# Altium integrated library Jumper.IntLib: 15 symbols
Pins are listed as number, name and electrical type; pins without a type are passive.

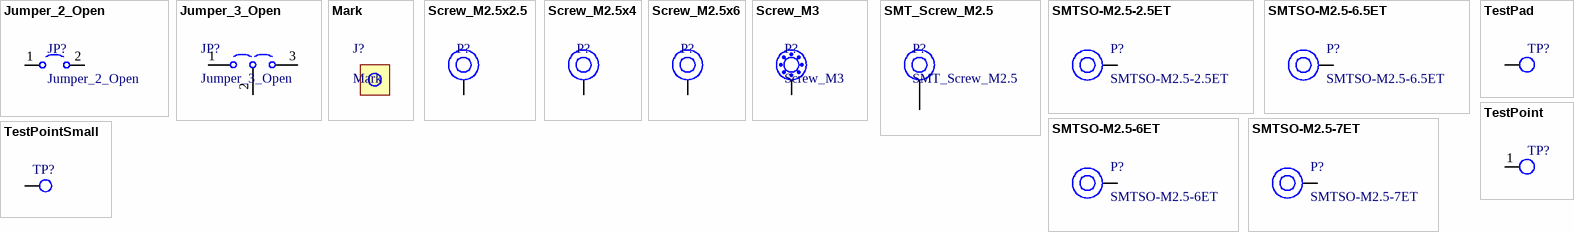
[diagram p0: symbols Jumper_2_Open to TestPointSmall]

## Jumper_2_Open
designator JP?
Jumper, 2-pole, open
footprint SolderJumper-2_P1.3mm_Open_RoundedPad1.0x1.5mm
pins: 1, 2

## Jumper_3_Open
designator JP?
Jumper, 3-pole, open
footprint SolderJumper-3_P1.3mm_Open_RoundedPad1.0x1.5mm
footprint Jumper-3_0402
pins: 1, 2, 3

## Mark
designator J?
footprint MARK_1mm

## Screw_M2.5x2.5
designator P?  (value not drawn)
footprint M2.5-2.5mm (SMT Steel Spacer, M2.5 Thread Internal, 6mm)
pins: 1

## Screw_M2.5x4
designator P?  (value not drawn)
footprint M2.5-4mm (SMT Steel Spacer, M2.5 Thread Internal, 4mm)
pins: 1

## Screw_M2.5x6
designator P?  (value not drawn)
footprint M2.5-6mm (SMT Steel Spacer, M2.5 Thread Internal, 6mm)
pins: 1

## Screw_M3
designator P?
footprint SCREW_M3
pins: 1

## SMT_Screw_M2.5
designator P?
footprint SMT_Screw_M2.5
pins: 1

## SMTSO-M2.5-2.5ET
designator P?
SMT螺母 SMTSO-M2.5-2.5ET
footprint SMTSO-M2.5-2.5ET
pins: 1

## SMTSO-M2.5-6.5ET
designator P?
SMT螺母 SMTSO-M2.5-6.5ET
footprint SMTSO-M2.5-6.5ET
pins: 1

## SMTSO-M2.5-6ET
designator P?
SMT螺母 SMTSO-M2.5-6ET
footprint SMTSO-M2.5-6ET
pins: 1

## SMTSO-M2.5-7ET
designator P?
SMT螺母 SMTSO-M2.5-7ET
footprint SMTSO-M2.5-7ET
pins: 1

## TestPad
designator TP?  (value not drawn)
TestPad Round 1.5mm
footprint Testpad_Round_1.5mm
pins: 1

## TestPoint
designator TP?  (value not drawn)
footprint TESPPOINT_ROUND_1MM
pins: 1

## TestPointSmall
designator TP?  (value not drawn)
TestPoint
footprint TESPPOINT_ROUND_1MM
footprint TP_Round_0.7mm
pins: 1